# Altium schematic symbol library LM78L05ACM.Schlib: 1 symbol
Pins are listed as number, name and electrical type; pins without a type are passive.

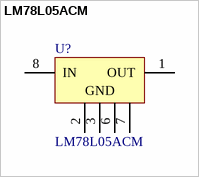
[diagram p0: symbol LM78L05ACM]

## LM78L05ACM
designator U?
3-Terminal Positive Regulator
pins: 1 OUT (power), 2 GND (power), 3 GND (power), 6 GND (power), 7 GND (power), 8 IN (power)